# EAGLE library part FT232R (library 000001)
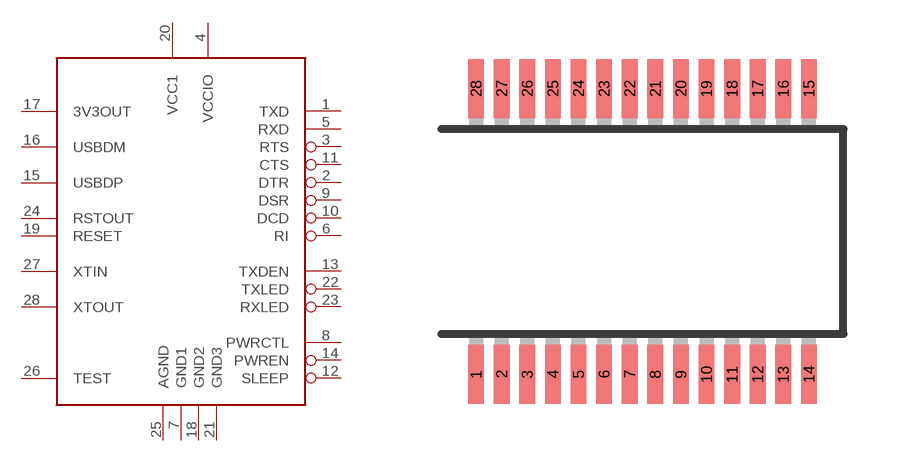
[diagram p85: symbol with the pads of SSOP28; footprint SSOP28]

Designator prefix -

## FT232RL  [SSOP28]
1  TXD
2  DTR
3  RTS
4  VCCIO  pwr
5  RXD
6  RI
7  GND1  pwr
8  PWRCTL
9  DSR
10  DCD
11  CTS
12  SLEEP
13  TXDEN
14  PWREN
15  USBDP
16  USBDM
17  3V3OUT
18  GND2  pwr
19  RESET
20  VCC1  pwr
21  GND3  pwr
22  TXLED
23  RXLED
24  RSTOUT
25  AGND  pwr
26  TEST
27  XTIN
28  XTOUT

## Footprint SSOP28 (pad centres in mm)
smd 0.4 x 1.5: 1 -4.195,-3.625; 2 -3.545,-3.625; 3 -2.895,-3.625; 4 -2.245,-3.625; 5 -1.595,-3.625; 6 -0.945,-3.625; 7 -0.295,-3.625; 8 0.355,-3.625; 9 1.005,-3.625; 10 1.655,-3.625; 11 2.305,-3.625; 12 2.955,-3.625; 13 3.605,-3.625; 14 4.255,-3.625; 15 4.255,3.625; 16 3.605,3.625; 17 2.955,3.625; 18 2.305,3.625; 19 1.655,3.625; 20 1.005,3.625; 21 0.355,3.625; 22 -0.295,3.625; 23 -0.945,3.625; 24 -1.595,3.625; 25 -2.245,3.625; 26 -2.895,3.625; 27 -3.545,3.625; 28 -4.195,3.625